# Altium footprint library PcbLibIСONNECTOR.PcbLib: 37 footprints (part 1 of 3)
Each footprint in its own frame and in the unit in brackets; x right, y up, seen from the top. Pads: shape width x height; smd on the part's side, far side on the other; paste and mask are expansions set on the pad; w line width, h text height; cw(c..) or ccw(c..) is an arc to the next point about the centre after c.
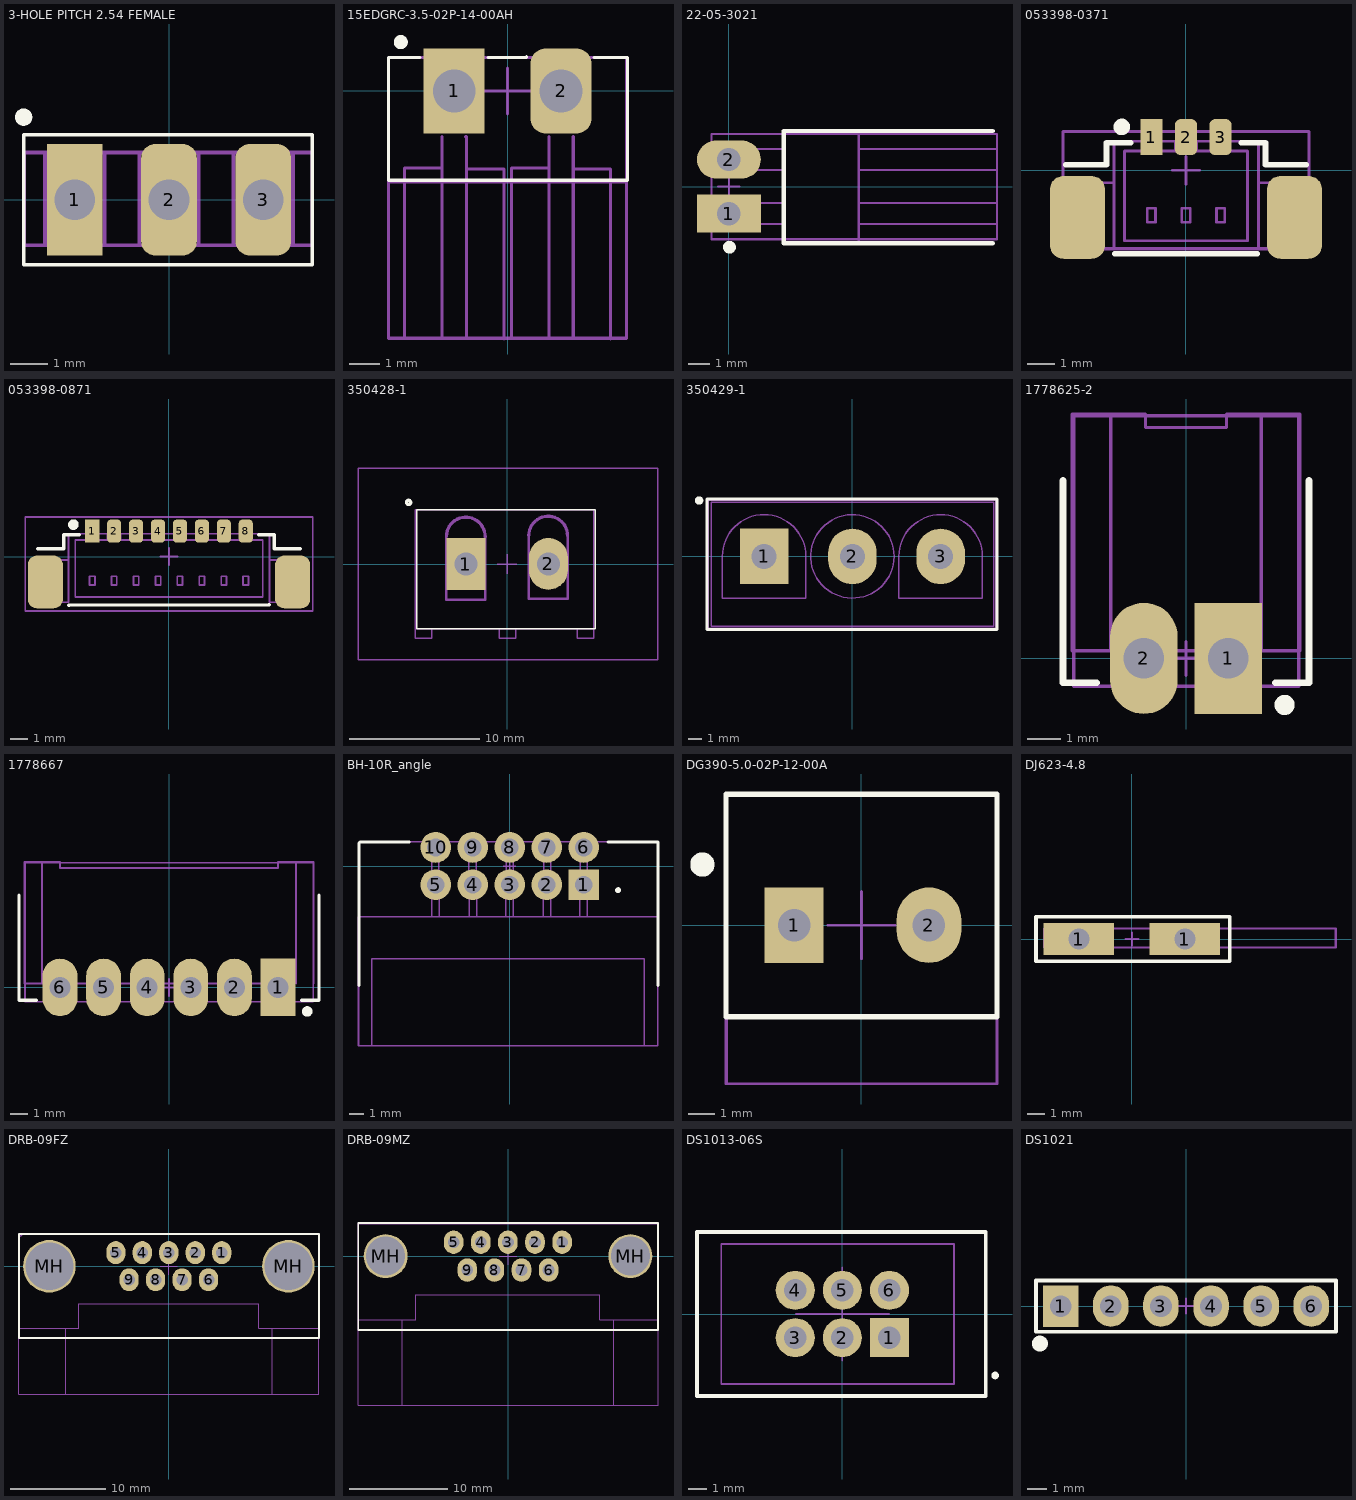
[diagram p0: the footprints below, top view; thin cyan lines are the x and y axes]

## 3-HOLE PITCH 2.54 FEMALE [mm] "3 Position Header Connector 0.100\" (2.54mm) Through Hole Gold"
height 8.5
pads (3):
  rect 1.5x3 hole 1.1: 1(-2.54,0)
  rrect50% 1.5x3 hole 1.1: 2(0,0) 3(2.54,0)
Top Overlay:
  circle w0.254: c-3.915,2.225 r0.106
  lines w0.1: -3.915,-1.75 -3.915,1.75 3.86,1.75 3.86,-1.75 -3.915,-1.75
TopAssy:
  lines w0.1: -3.34,-1.2 -3.34,1.275 ; -1.765,1.275 -1.74,1.275 -1.74,-1.225 ; -0.8,-1.2 -0.8,1.275 ; 0.8,-1.225 0.8,1.275 ; 1.74,-1.2 1.74,1.275 ; 3.34,-1.225 3.34,1.275 ; -3.9,-1.225 -3.9,1.275 3.86,1.275 3.86,-1.225 -3.9,-1.225
Inside:
  lines w0.1: -0.75,0 0,0 ; 0,-0.75 0,0 ; 0,0.75 0,0 ; 0.75,0 0,0
3D body "User Library-PBS-03.step": height 8.4, standoff -3.2, extent -3.81,-1.27 3.81,1.27

## 15EDGRC-3.5-02P-14-00AH [mm]
pads (2):
  rect 2x2.8 hole 1.4: 1(-1.75,0)
  rrect50% 2x2.8 hole 1.4: 2(1.75,0)
Top Overlay:
  lines w0.1: -2.875,1.1 -3.9,1.1 -3.9,-2.925 3.925,-2.925 3.925,1.1 2.825,1.1 ; -0.65,1.1 0.625,1.1 0.625,1.125
  lines w0.254: -3.411,1.549 cw(c-3.5,1.6) -3.399,1.58
TopAssy:
  lines w0.1: -3.9,-2.975 3.875,-2.975 3.875,-2.925 ; -3.275,-8.1 -3.375,-8.1 -3.375,-2.525 -2.15,-2.525 ; -2.15,-8.1 -2.15,-1.5 ; -1.375,-1.5 -1.35,-1.5 -1.35,-8.1 ; -1.35,-2.55 -0.125,-2.55 -0.125,-8.125 ; 0.125,-8.1 0.125,-2.525 1.35,-2.525 ; 1.35,-8.1 1.35,-1.5 ; 2.15,-8.1 2.15,-1.5 ; 2.15,-2.55 3.375,-2.55 3.375,-8.125 ; -3.9,-8.1 -3.9,1.1 3.9,1.1 3.9,-8.1 -3.9,-8.1
Inside:
  lines w0.1: -0.75,0 0,0 ; 0,-0.75 0,0 ; 0,0.75 0,0 ; 0.75,0 0,0
3D body "User Library-15EDGRC-3_5-2.step": height 7.2, standoff -3.4, extent -3.875,-8.1 3.925,1.1

## 22-05-3021 [mm]
height 6.5
pads (2):
  rect 3x1.8 hole 1.1: 1(0,-1.27)
  oval 3x1.8 hole 1.1: 2(0,1.27)
Top Overlay:
  circle w0.3: c0.025,-2.85 r0.15
  lines w0.2: 12.4,-2.66 2.575,-2.66 2.575,2.61 12.4,2.61
TopAssy:
  lines w0.1: 2.575,-1.76 -0.4,-1.76 -0.4,-0.78 2.575,-0.78 ; 2.575,0.78 -0.4,0.78 -0.4,1.76 2.575,1.76 ; 6.1,-1.76 12.6,-1.76 12.6,-0.78 6.1,-0.78 ; 6.1,0.78 12.6,0.78 12.6,1.76 6.1,1.76 ; 2.575,-2.66 6.1,-2.66 6.1,2.66 2.575,2.66 2.575,-2.66
Inside:
  lines w0.1: -0.5,0 0.5,0 ; 0,-0.5 0,0.5
Size:
  lines w0.1: -0.825,-2.475 12.6,-2.475 12.6,2.475 -0.825,2.475 -0.825,-2.475
3D body "022053021.STEP": height 6.38, standoff -3.56, extent -0.335,-2.464 12.593,2.464

## 053398-0371 [mm]
pads (5):
  rect 0.8x1.3 smd: 1(-1.25,1.2)
  rrect50% 0.8x1.3 smd: 2(0,1.2) 3(1.25,1.2)
  rrect50% 2x3 smd: ""(-3.925,-1.7) ""(3.925,-1.7)
Top Overlay:
  circle w0.3: c-2.325,1.57 r0.15
  lines w0.2: -4.35,0.2 -2.875,0.2 -2.875,1 -2,1 ; -2.575,-3.025 2.575,-3.025 ; 2,1 2.875,1 2.875,0.2 4.35,0.2
TopAssy:
  lines w0.1: -2.6,-0.45 -4.1,-0.45 -4.1,-2.85 ; -1.4,1.05 -1.4,1.55 -1.1,1.55 -1.1,1.05 ; -0.375,1.05 -0.375,0.7 -2.225,0.7 -2.225,-2.55 2.225,-2.55 2.225,0.7 0.375,0.7 0.375,1.05 ; -0.15,1.05 -0.15,1.55 0.15,1.55 0.15,1.05 ; 2.625,-0.45 4.05,-0.45 4.05,-2.85 2.6,-2.85 2.625,-2.825 2.625,1.05 -2.6,1.05 -2.6,-2.85 -4.1,-2.85 ; 3.85,-2.85 -4.1,-2.85 ; 1.1,1.05 1.1,1.55 ; 1.1,1.05 1.1,1.55 ; 1.1,1.05 1.1,1.55 ; 1.1,1.55 1.4,1.55 ; 1.1,1.55 1.4,1.55 ; 1.1,1.55 1.4,1.55 ; 1.4,1.05 1.4,1.55 ; 1.4,1.05 1.4,1.55 ; 1.4,1.05 1.4,1.55 ; -1.4,-1.875 -1.4,-1.375 -1.1,-1.375 -1.1,-1.875 -1.4,-1.875 ; -0.15,-1.875 -0.15,-1.375 0.15,-1.375 0.15,-1.875 -0.15,-1.875 ; 1.1,-1.875 1.1,-1.375 1.4,-1.375 1.4,-1.875 1.1,-1.875
Inside:
  lines w0.1: -0.5,0 0.5,0 ; 0,-0.5 0,0.5 ; -4.45,-2.825 4.45,-2.825 4.45,1.4 -4.45,1.4 -4.45,-2.825
3D body "0371.STEP": height 4.72, standoff -0.02, extent -4.45,-2.8 4.45,1.4

## 053398-0871 [mm]
pads (10):
  rect 0.8x1.3 smd: 1(-4.375,1.45)
  rrect50% 0.8x1.3 smd: 2(-3.125,1.45) 3(-1.875,1.45) 4(-0.625,1.45) 5(0.625,1.45) 6(1.875,1.45) 7(3.125,1.45) 8(4.375,1.45)
  rrect50% 2x3 smd: ""(-7.05,-1.45) ""(7.05,-1.45)
Top Overlay:
  circle w0.3: c-5.45,1.82 r0.15
  lines w0.2: -7.475,0.45 -6,0.45 -6,1.25 -5.125,1.25 ; -5.7,-2.775 5.7,-2.75 ; 5.125,1.25 6,1.25 6,0.45 7.475,0.45
TopAssy:
  lines w0.1: -5.725,-0.2 -7.225,-0.2 -7.225,-2.6 -5.725,-2.6 -5.725,1.3 5.725,1.3 5.725,-2.6 7.225,-2.6 7.225,-0.2 5.725,-0.2 ; -4.525,1.3 -4.525,1.8 -4.225,1.8 -4.225,1.3 ; -3.5,1.3 -3.5,0.95 -5.35,0.95 -5.35,-2.3 5.35,-2.3 5.35,0.95 -2.75,0.95 -2.75,1.3 ; -3.275,1.3 -3.275,1.8 -2.975,1.8 -2.975,1.3 ; -0.775,1.325 -0.775,1.825 -0.475,1.825 -0.475,1.325 ; 1.725,1.325 1.725,1.825 2.025,1.825 2.025,1.325 ; -2.025,1.3 -2.025,1.8 ; -2.025,1.3 -2.025,1.8 ; -2.025,1.3 -2.025,1.8 ; -2.025,1.8 -1.725,1.8 ; -2.025,1.8 -1.725,1.8 ; -2.025,1.8 -1.725,1.8 ; -1.725,1.3 -1.725,1.8 ; -1.725,1.3 -1.725,1.8 ; -1.725,1.3 -1.725,1.8 ; 0.475,1.325 0.475,1.825 ; 0.475,1.325 0.475,1.825 ; 0.475,1.325 0.475,1.825 ; 0.475,1.825 0.775,1.825 ; 0.475,1.825 0.775,1.825 ; 0.475,1.825 0.775,1.825 ; 0.775,1.325 0.775,1.825 ; 0.775,1.325 0.775,1.825 ; 0.775,1.325 0.775,1.825 ; 2.975,1.325 2.975,1.825 ; 2.975,1.325 2.975,1.825 ; 2.975,1.325 2.975,1.825 ; 2.975,1.825 3.275,1.825 ; 2.975,1.825 3.275,1.825 ; 2.975,1.825 3.275,1.825 ; 3.275,1.325 3.275,1.825 ; 3.275,1.325 3.275,1.825 ; 3.275,1.325 3.275,1.825 ; 4.225,1.325 4.225,1.825 ; 4.225,1.325 4.225,1.825 ; 4.225,1.325 4.225,1.825 ; 4.225,1.825 4.525,1.825 ; 4.225,1.825 4.525,1.825 ; 4.225,1.825 4.525,1.825 ; 4.525,1.325 4.525,1.825 ; 4.525,1.325 4.525,1.825 ; 4.525,1.325 4.525,1.825 ; -4.525,-1.625 -4.525,-1.125 -4.225,-1.125 -4.225,-1.625 -4.525,-1.625 ; -3.275,-1.625 -3.275,-1.125 -2.975,-1.125 -2.975,-1.625 -3.275,-1.625 ; -2.025,-1.625 -2.025,-1.125 -1.725,-1.125 -1.725,-1.625 -2.025,-1.625 ; -0.775,-1.625 -0.475,-1.625 -0.475,-1.125 -0.775,-1.125 -0.775,-1.625 ; 0.475,-1.625 0.775,-1.625 0.775,-1.125 0.475,-1.125 0.475,-1.625 ; 1.725,-1.625 1.725,-1.125 2.025,-1.125 2.025,-1.625 1.725,-1.625 ; 2.975,-1.625 3.275,-1.625 3.275,-1.125 2.975,-1.125 2.975,-1.625 ; 4.225,-1.625 4.225,-1.125 4.525,-1.125 4.525,-1.625 4.225,-1.625
Inside:
  lines w0.1: -0.5,0 0.5,0 ; 0,-0.5 0,0.5 ; -8.2,-3.1 -8.2,2.25 4.625,2.25 8.2,2.25 8.2,-3.1 0,-3.1 -8.2,-3.1
3D body "533980871.stp": height 4.97, standoff 0.23, extent -7.575,-2.375 7.575,1.825

## 350428-1 [mm] "Connector Header Through Hole 2 position 0.250\" (6.35mm)"
pads (2):
  rect 3x4 hole 1.78: 1(-3.175,-0.012)
  oval 3x4 hole 1.78: 2(3.175,0.013)
Top Overlay:
  circle w0.254: c-7.6,4.75 r0.16
  lines w0.1: -6.975,-4.987 -6.975,1.638 -6.975,4.188 6.775,4.188 6.775,-4.987 -6.975,-4.987
TopAssy:
  circle w0.254: c-3.175,-0.038 r0.851
  circle w0.254: c3.175,0.038 r0.851
  lines w0.1: -5.8,-4.987 -5.8,-5.712 -7.075,-5.712 -7.075,-4.987 ; -0.625,-4.987 -0.625,-5.712 0.65,-5.712 0.65,-4.987 ; -0.05,-4.987 -7.075,-4.987 ; 5.4,-4.987 5.4,-5.712 6.675,-5.712 6.675,-4.987 ; -7.075,-4.987 -7.075,1.638 -7.075,4.188 6.675,4.188 6.675,-4.987 ; -7.075,-4.987 6.675,-4.987
  lines w0.2: -4.683,2.122 -4.683,-2.762 -4.65,-2.762 ; -4.65,-2.712 -4.65,-2.762 ; -1.684,2.088 -1.684,-2.762 -4.65,-2.762 ; 1.667,2.197 1.667,-2.687 1.7,-2.687 ; 1.7,-2.637 1.7,-2.687 ; 4.666,2.163 4.666,-2.687 1.7,-2.687
  lines w0.254: -4.683,2.122 cw(c-3.191,2.122) -1.7,2.088 ; 1.667,2.197 cw(c3.159,2.197) 4.65,2.163
Inside:
  lines w0.1: -0.75,0 0,0 ; 0,-0.75 0,0 ; 0,0.75 0,0 ; 0.75,0 0,0
Size:
  lines w0.1: -11.5,-7.362 -11.5,7.363 11.625,7.363 11.625,-7.362 -11.5,-7.362
3D body "350428-1_Assembler.STEP": height 32.59, standoff -3.44, extent -11.557,-7.353 11.557,7.379

## 350429-1 [mm]
pads (3):
  rect 3.5x4 hole 1.8: 1(-6.35,0)
  oval 3.5x4 hole 1.8: 2(0,0) 3(6.35,0)
Top Overlay:
  circle w0.3: c-11.025,4.02 r0.15
  lines w0.2: 10.391,-5.265 -10.45,-5.265 -10.45,4.135 10.382,4.135 10.4,4.117 10.4,-5.265
TopAssy:
  circle w0.1: c0,0 r3
  lines w0.1: -10.16,-5.01 -10.16,3.88 10.16,3.88 10.16,-5.01 -10.16,-5.01 ; -9.35,-3 -9.35,0 cw(c-6.35,0) -3.35,0 -3.35,-3 -9.35,-3 ; -7.29,-0.93 -5.44,-0.93 -5.44,0.92 -7.29,0.92 -7.29,-0.93 ; -6.59,-0.25 -6.09,-0.25 -6.09,0.25 -6.59,0.25 -6.59,-0.25 ; -0.94,-0.93 -0.94,0.92 0.91,0.92 0.91,-0.93 -0.94,-0.93 ; -0.24,-0.25 -0.24,0.25 0.26,0.25 0.26,-0.25 -0.24,-0.25 ; 3.35,-3 9.35,-3 9.35,0 ccw(c6.35,0) 3.35,0 3.35,-3 ; 5.41,-0.93 7.26,-0.93 7.26,0.92 5.41,0.92 5.41,-0.93 ; 6.11,-0.25 6.61,-0.25 6.61,0.25 6.11,0.25 6.11,-0.25
Size:
  lines w0.1: -10.35,-5.175 -10.35,4.05 10.3,4.05 10.3,-5.175 -10.35,-5.175
3D body "350429-1.STEP": height 14.77, standoff -3.58, extent -12.706,-5.01 12.706,3.81

## 1778625-2 [mm]
height 5
pads (2):
  rect 2x3.3 hole 1.2: 1(1.25,0)
  oval 2x3.3 hole 1.2: 2(-1.25,0)
Top Overlay:
  circle w0.3: c2.925,-1.38 r0.15
  lines w0.2: -3.65,5.275 -3.65,-0.725 -2.65,-0.725 ; 2.65,-0.725 3.65,-0.725 3.65,5.275
TopAssy:
  lines w0.1: -2.237,0.3 -2.237,7.225 ; -1.488,0.225 -1.488,-0.375 -0.938,-0.375 -0.938,0.225 ; 0.975,0.225 0.975,-0.375 1.525,-0.375 1.525,0.225 ; 0.987,0.225 0.987,-0.375 1.537,-0.375 1.537,0.225 ; 2.237,0.3 2.237,7.225 ; -3.375,0.225 -3.375,7.25 -1.2,7.25 -1.2,6.85 1.2,6.85 1.2,7.25 3.375,7.25 3.375,0.225 -3.375,0.225
Inside:
  lines w0.1: -0.5,0 0.5,0 ; 0,-0.5 0,0.5
Size:
  lines w0.1: -3.325,-0.825 3.35,-0.825 3.35,7.2 -3.325,7.2 -3.325,-0.825
3D body "1778625.STEP": height 5, standoff -2.1, extent -3.35,-0.6 3.35,7.2

## 1778667 [mm]
height 5
pads (6):
  rect 2x3.3 hole 1.2: 1(6.25,0)
  oval 2x3.3 hole 1.2: 2(3.75,0) 3(1.25,0) 4(-1.25,0) 5(-3.75,0) 6(-6.25,0)
Top Overlay:
  circle w0.3: c7.925,-1.38 r0.15
  lines w0.2: -8.6,5.275 -8.6,-0.725 -7.6,-0.725 ; 7.6,-0.725 8.6,-0.725 8.6,5.275
TopAssy:
  lines w0.1: -7.288,0.225 -7.288,7.2 ; -6.513,0.225 -6.513,-0.375 -5.963,-0.375 -5.963,0.225 ; -4.013,0.225 -4.013,-0.375 -3.463,-0.375 -3.463,0.225 ; -1.488,0.225 -1.488,-0.375 -0.938,-0.375 -0.938,0.225 ; 0.975,0.225 0.975,-0.375 1.525,-0.375 1.525,0.225 ; 3.487,0.225 3.487,-0.375 4.037,-0.375 4.037,0.225 ; 5.963,0.225 5.963,-0.375 6.513,-0.375 6.513,0.225 ; 7.1,0.225 -8.3,0.225 -8.3,7.2 -6.25,7.2 -6.25,6.85 6.25,6.85 6.25,7.2 8.3,7.2 8.3,0.225 ; 7.288,0.225 7.288,7.2
Inside:
  lines w0.1: -0.5,0 0.5,0 ; 0,-0.5 0,0.5
Size:
  lines w0.1: -8.25,-0.825 8.275,-0.825 8.275,7.15 -8.25,7.15 -8.25,-0.825
3D body "1778667.STEP": height 5, standoff -2.1, extent -8.325,-0.6 8.375,7.2

## BH-10R_angle [mm] "10 конт. 2.54мм"
height 10
pads (10):
  rect 2.1x2.1 hole 1.2: 1(5.05,-1.27)
  round 2.1 hole 1.2: 2(2.525,-1.27) 3(0,-1.27) 4(-2.525,-1.27) 5(-5.05,-1.27) 6(5.05,1.27) 7(2.525,1.27) 8(0,1.27) 9(-2.525,1.27) 10(-5.05,1.27)
Top Overlay:
  circle w0.2: c7.4,-1.645 r0.103
  lines w0.2: -10.275,-8.145 -10.275,1.58 -10.225,1.63 -6.85,1.63 ; 6.7,1.63 10.125,1.63 10.125,-8.145
TopAssy:
  lines w0.1: -9.425,-12.27 -9.425,-6.32 9.175,-6.32 9.175,-12.27 ; -5.325,-1.07 -5.325,1.18 -4.85,1.18 -4.825,1.155 -4.825,-1.045 ; -5.3,-3.42 -5.3,-1.17 -4.825,-1.17 -4.8,-1.195 -4.8,-3.395 ; -2.775,-1.07 -2.775,1.18 -2.3,1.18 -2.275,1.155 -2.275,-1.045 ; -2.75,-3.42 -2.75,-1.17 -2.275,-1.17 -2.25,-1.195 -2.25,-3.395 ; -0.25,-3.42 -0.25,-1.17 0.225,-1.17 0.25,-1.195 0.25,-3.395 ; -0.237,-1.145 -0.237,1.105 0.238,1.105 0.263,1.08 0.263,-1.12 ; 2.3,-3.42 2.3,-1.17 2.775,-1.17 2.8,-1.195 2.8,-3.395 ; 2.313,-1.145 2.313,1.105 2.788,1.105 2.813,1.08 2.813,-1.12 ; 4.8,-3.42 4.8,-1.17 5.275,-1.17 5.3,-1.195 5.3,-3.395 ; 4.813,-1.145 4.813,1.105 5.288,1.105 5.313,1.08 5.313,-1.12 ; -10.35,-12.245 -10.325,-12.27 10.075,-12.27 10.1,-12.245 10.1,-3.445 -10.35,-3.445 -10.35,-12.245
Inside:
  lines w0.1: -10.3,1.625 -10.3,-12.275 10.1,-12.275 10.125,-12.25 10.125,1.65 -10.275,1.65 ; -0.425,0 0,0 ; 0,-0.425 0,0 ; 0,0.425 0,0 ; 0.425,0 0,0
3D body "User Library-BH10R-1.STEP": height 9.35, standoff -2.4, extent -10.325,-12.26 10.075,1.62

## DG390-5.0-02P-12-00A [mm] "15mmx10.65mmx19.8mm"
height 19.8
pads (2):
  rect 2.2x2.8 hole 1.2: 1(-2.5,0)
  oval 2.4x2.8 hole 1.2: 2(2.5,0)
Top Overlay:
  circle w0.5: c-5.9,2.25 r0.2
  lines w0.2: -5.025,-3.4 -5.025,4.85 5.025,4.85 5.025,-3.4 -5.025,-3.4
TopAssy:
  circle w0.1: c2.5,0 r0.325
  circle w0.1: c-2.5,0 r0.351
  lines w0.1: -5.025,4.8 -5,4.8 ; -5,4.8 5.025,4.8 5.025,-5.875 -5,-5.875 -5,4.8
Inside:
  lines w0.1: -1.25,0 0,0 ; 0,-1.25 0,0 ; 0,1.25 0,0 ; 1.25,0 0,0 ; -5.025,-5.875 5.025,-5.875 5.025,4.825 -5.025,4.825 -5.025,-5.875
3D body "DG390-2-05.STEP": height 18.1, standoff 0, extent -5,-5.825 5,4.825

## DJ623-4.8 [mm]
pads (2):
  rect 4x1.8 hole 1.2 square: 1(-3,0) 1(3,0)
Top Overlay:
  lines w0.2: -5.425,-1.25 -5.25,-1.25 5.35,-1.25 5.525,-1.25 5.525,1.25 5.35,1.25 -5.25,1.25 -5.425,1.25 -5.425,-1.25
TopAssy:
  lines w0.1: 11.525,0.525 11.525,-0.475 -4.35,-0.475 -4.35,0.575 11.525,0.575 ; -3.9,-0.35 -2.2,-0.35 -2.2,0.45 -3.9,0.45 -3.9,-0.35 ; 2.1,-0.35 2.1,0.45 3.8,0.45 3.8,-0.35 2.1,-0.35
Inside:
  lines w0.1: -0.375,0 0,0 ; 0,-0.375 0,0 ; 0,0.375 0,0 ; 0.375,0 0,0 ; -4.975,-0.5 -4.975,0.6 11.55,0.6 11.55,-0.5 -4.975,-0.5
3D body "врезной контакт-DJ623_4.8.STEP": height 10.2, standoff -2.8, extent -3.475,-0.475 11.525,0.525

## DRB-09FZ [mm] "30.84mm x 18.5mm 12.5mm"
height 12.5
pads (11):
  oval 2x2.4 hole 1.2: 1(5.53,1.42) 2(2.76,1.42) 3(-0.01,1.42) 4(-2.78,1.42) 5(-5.55,1.42) 6(4.15,-1.42) 7(1.38,-1.42) 8(-1.39,-1.42) 9(-4.16,-1.42)
  round 5.5 hole 5: MH(-12.5,0) MH(12.5,0)
Top Overlay:
  lines w0.2: -15.675,-7.525 -15.675,3.375 15.7,3.375 15.7,-7.525 -15.675,-7.525
TopAssy:
  circle w0.1: c-12.5,0 r1.511
  circle w0.1: c12.5,0 r1.511
  circle w0.1: c5.53,1.42 r0.347
  circle w0.1: c2.76,1.42 r0.347
  circle w0.1: c-0.01,1.42 r0.347
  circle w0.1: c1.38,-1.42 r0.347
  circle w0.1: c-1.39,-1.42 r0.347
  circle w0.1: c4.15,-1.42 r0.347
  circle w0.1: c-2.78,1.42 r0.347
  circle w0.1: c-5.55,1.42 r0.347
  circle w0.1: c-4.16,-1.42 r0.347
  lines w0.1: -10.675,-6.475 -10.8,-6.475 -10.8,-13.4 0,-13.4 10.8,-13.4 10.8,-6.475 ; 9.375,-3.975 9.375,-6.5 15.7,-6.5 15.7,3.325 -15.3,3.325 -15.675,2.95 -15.675,-6.475 -9.4,-6.475 -9.4,-3.95 9.375,-3.95
Inside:
  lines w0.1: -0.9,0 0,0 ; 0,-0.9 0,0 ; 0,0.9 0,0 ; 0.9,0 0,0 ; -15.675,-13.375 -15.675,2.975 -15.325,3.325 -15.325,3.4 15.7,3.4 15.7,-13.375 -15.675,-13.375
3D body "User Library-DB-9F.step": height 12.75, standoff -3.65, extent -15.3,-13.4 15.2,3.3

## DRB-09MZ [mm] "30.84mm x 18.5mm 12.5mm"
height 12.5
pads (11):
  oval 2x2.4 hole 1.2: 1(5.53,1.42) 2(2.76,1.42) 3(-0.01,1.42) 4(-2.78,1.42) 5(-5.55,1.42) 6(4.15,-1.42) 7(1.38,-1.42) 8(-1.39,-1.42) 9(-4.16,-1.42)
  round 4.5 hole 4: MH(-12.5,0) MH(12.5,0)
Top Overlay:
  lines w0.2: -15.3,-7.525 15.325,-7.525 15.325,3.375 -15.3,3.375 -15.3,-7.525
TopAssy:
  circle w0.1: c-4.16,-1.42 r0.347
  circle w0.1: c-5.55,1.42 r0.347
  circle w0.1: c-2.78,1.42 r0.347
  circle w0.1: c4.15,-1.42 r0.347
  circle w0.1: c-1.39,-1.42 r0.347
  circle w0.1: c1.38,-1.42 r0.347
  circle w0.1: c-0.01,1.42 r0.347
  circle w0.1: c2.76,1.42 r0.347
  circle w0.1: c5.53,1.42 r0.347
  circle w0.1: c12.5,0 r1.511
  circle w0.1: c-12.5,0 r1.511
  lines w0.1: -10.975,-15.225 -0.175,-15.225 10.625,-15.225 ; -10.8,-15.2 -10.8,-6.475 -10.675,-6.475 ; 9.375,-3.975 9.375,-6.5 15.3,-6.5 15.3,3.325 -15.3,3.325 -15.325,3.3 -15.325,-6.475 -9.4,-6.475 -9.4,-3.95 9.375,-3.95 ; 10.8,-15.175 10.8,-6.475
Inside:
  lines w0.1: -0.9,0 0,0 ; 0,-0.9 0,0 ; 0,0.9 0,0 ; 0.9,0 0,0 ; -15.325,-15.225 15.325,-15.225 15.325,3.4 -15.325,3.4 -15.325,3.325 -15.325,-15.225
3D body "d-sub_9pin_right_angle_pcb.stp": height 13.25, standoff -2.65, extent -15.38,-15.225 15.43,3.275

## DS1013-06S [mm] "6конт. 2.54мм"
height 10
pads (6):
  rect 2.1x2.1 hole 1.2: 1(2.525,-1.27)
  round 2.1 hole 1.2: 2(0,-1.27) 3(-2.525,-1.27) 4(-2.525,1.27) 5(0,1.27) 6(2.525,1.27)
Top Overlay:
  circle w0.2: c8.2,-3.3 r0.103
  lines w0.2: -7.8,-4.4 -7.8,4.4 7.7,4.4 7.7,-4.4 -7.8,-4.4
TopAssy:
  lines w0.1: -7.76,-4.4 -7.76,4.4 7.66,4.4 7.66,-4.4 -7.76,-4.4 ; -6.5,-3.75 -6.5,3.75 6,3.75 6,-3.75 -6.5,-3.75
Inside:
  lines w0.1: -2.5,0 0,0 ; 0,-2.5 0,0 ; 0,2.5 0,0 ; 2.5,0 0,0 ; -7.8,-4.4 -7.8,4.4 7.7,4.4 7.7,-4.4 -7.8,-4.4
3D body "User Library-DS1013-6S (IDC-6MS CONNFLY).step": height 9, standoff -3.6, extent -7.76,-4.4 7.66,4.4

## DS1021 [mm] "Вилка штыревая 2.54мм 1x6"
pads (6):
  rect 1.8x2.1 hole 1.1: 1(-6.35,0)
  oval 1.8x2.1 hole 1.1: 2(-3.81,0) 3(-1.27,0) 4(1.27,0) 5(3.81,0) 6(6.35,0)
Top Overlay:
  circle w0.4: c-7.4,-1.9 r0.2
  lines w0.2: -7.6,-1.3 7.6,-1.3 7.6,1.3 -7.6,1.3 -7.6,-1.3
TopAssy:
  circle w0.1: c-6.4,0 r0.6
  circle w0.1: c-3.86,0 r0.6
  circle w0.1: c-1.32,0 r0.6
  circle w0.1: c1.22,0 r0.6
  circle w0.1: c3.76,0 r0.6
  circle w0.1: c6.3,0 r0.6
  lines w0.1: -7.6,-1.3 -7.6,1.3 7.6,1.3 7.6,-1.3 -7.6,-1.3
Inside:
  lines w0.1: -0.375,0 0,0 ; 0,-0.375 0,0 ; 0,0.375 0,0 ; 0.375,0 0,0 ; -7.6,-1.275 -7.6,1.3 7.6,1.3 7.6,-1.275 -6.55,-1.275 -7.6,-1.275
3D body "User Library-PLS-6-1.step": height 8.54, standoff -3, extent -7.62,-1.29 7.62,1.25